# EAGLE library part TPS63070X (library Eagle_CAD_parts)
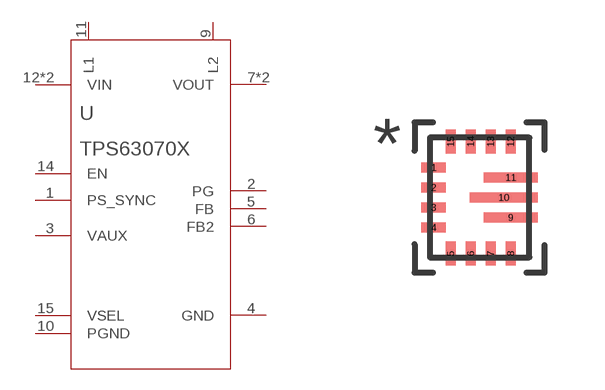
[diagram p31: symbol with the pads of 15-VQFN; footprint 15-VQFN]

Designator prefix U

## TPS63070X (DIGIKEY_PART_NUMBER: 296-44874-1-ND; MANUFACTURER_PART_NUMBER: TPS63070RNMT; VENDOR: Texas Instruments)  [15-VQFN]
1  PS_SYNC  in
2  PG  oc
3  VAUX  pas
4  GND  pwr
5  FB  out
6  FB2  in
7  VOUT  pwr
8  VOUT  pwr
9  L2  pas
10  PGND  pwr
11  L1  pas
12  VIN  pwr
13  VIN  pwr
14  EN  in
15  VSEL  in

## Footprint 15-VQFN (pad centres in mm)
smd 0.61 x 0.254: 1 -1.15,0.75; 2 -1.15,0.25; 3 -1.15,-0.25; 4 -1.15,-0.75
smd 0.254 x 0.61: 5 -0.725,-1.4; 6 -0.225,-1.4; 7 0.275,-1.4; 8 0.775,-1.4; 12 0.775,1.4; 13 0.275,1.4; 14 -0.225,1.4; 15 -0.725,1.4
smd 1.346 x 0.254: 9 0.775,-0.5; 11 0.775,0.5
smd 1.702 x 0.254: 10 0.6,0